# Altium footprint library ldc-hw-library-pcb.PcbLib: 21 footprints (part 1 of 2)
Each footprint in its own frame and in the unit in brackets; x right, y up, seen from the top. Pads: shape width x height; smd on the part's side, far side on the other; paste and mask are expansions set on the pad; w line width, h text height; cw(c..) or ccw(c..) is an arc to the next point about the centre after c.
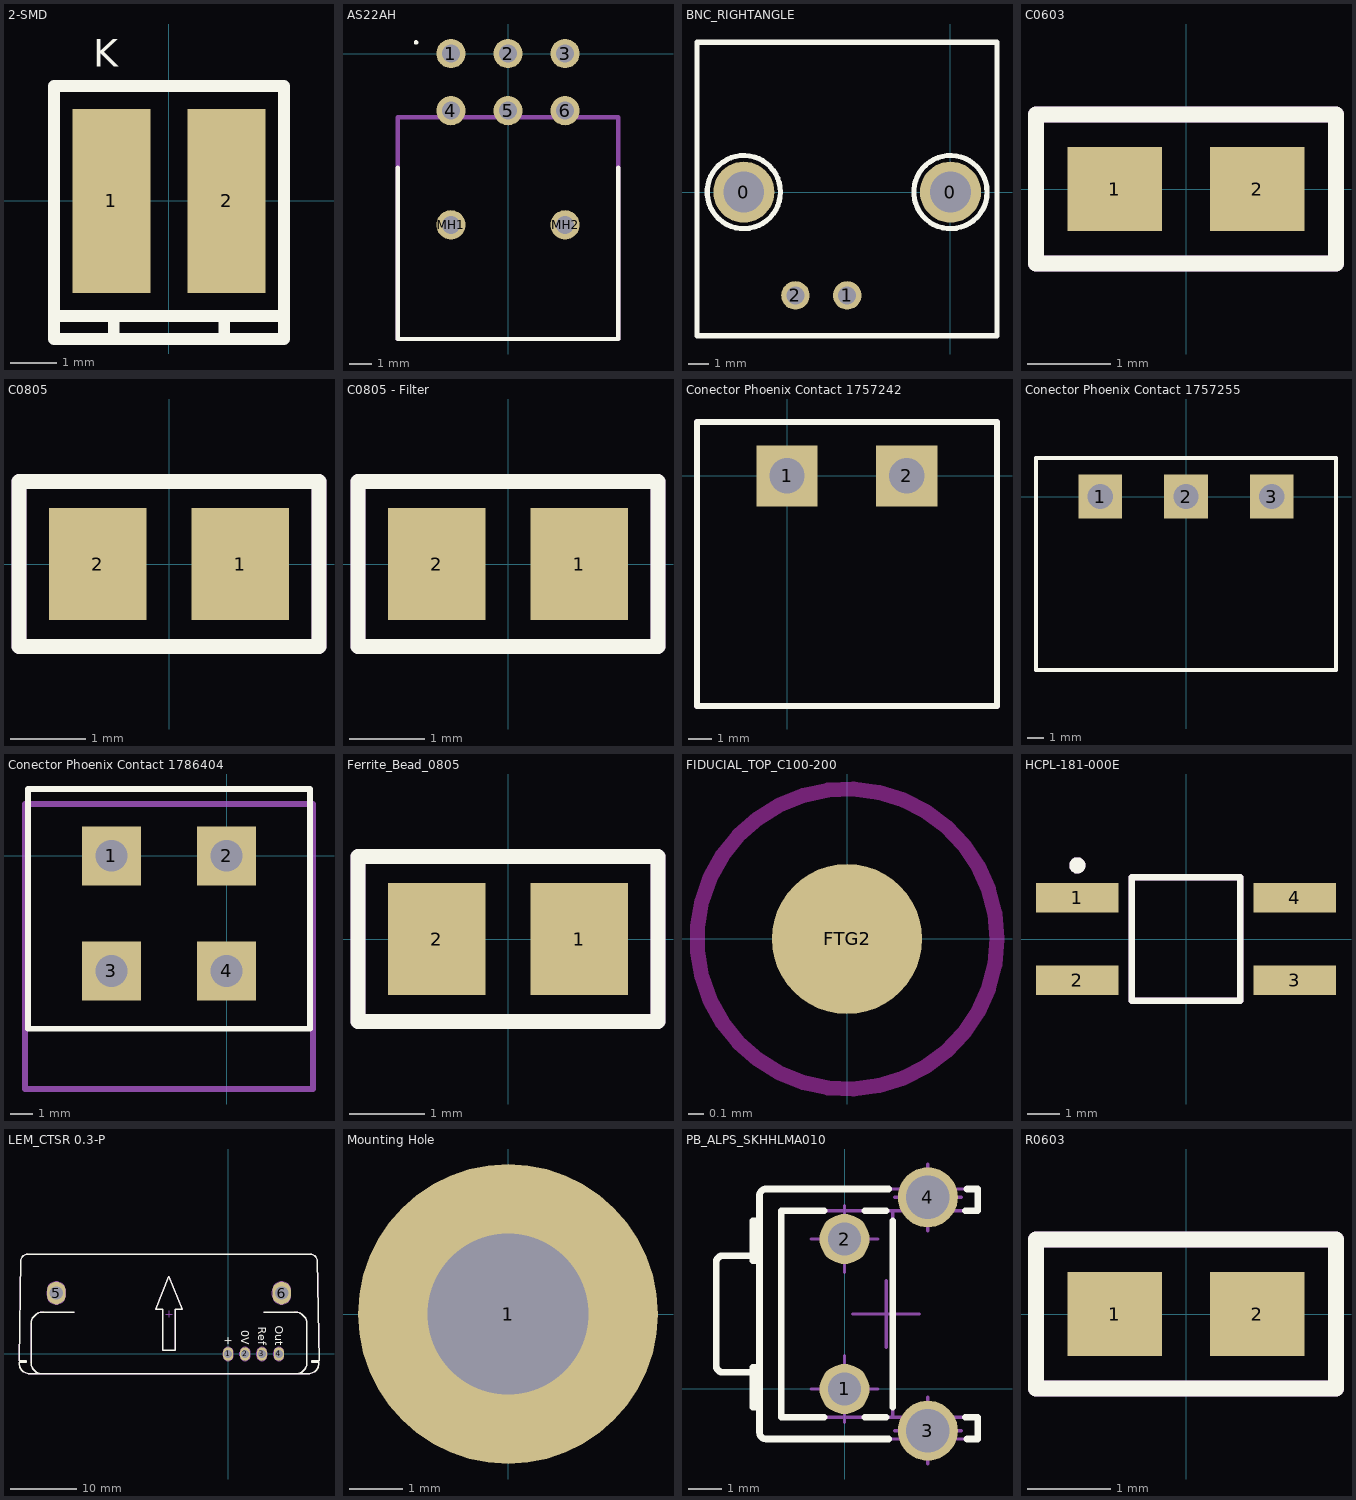
[diagram p0: the footprints below, top view; thin cyan lines are the x and y axes]

## 2-SMD [mm]
pads (2):
  rect 1.7x4 smd: 1(-1.25,0) 2(1.25,0)
Top Overlay:
  lines w0.254: -2.5,-2.5 2.5,-2.5 ; -1.2,-3 -1.2,-2.5 ; 1.2,-3 1.2,-2.5 ; -2.5,-3 2.5,-3 2.5,2.5 -2.5,2.5 -2.5,-3
  text "K" at -1.651,2.921 h0.6
Mechanical 29:
  text "LD?" at 3.416,-0.346 h0.8
3D body "User Library-LED BLUE OSRAM sideled.stp": height 4.03, standoff 0, extent -2,-2.032 2,1.733

## AS22AH [mm]
pads (8):
  round 1.3 hole 0.8: 1(-2.54,0) 2(0,0) 3(2.54,0) 4(-2.54,-2.54) 5(0,-2.54) 6(2.54,-2.54) MH1(-2.54,-7.62) MH2(2.54,-7.62)
Top Overlay:
  lines w0.1: -4.14,0.5 ccw(c-4.09,0.5) -4.04,0.5 ccw(c-4.09,0.5) -4.14,0.5
  lines w0.2: -4.9,-5.08 -4.9,-12.7 4.9,-12.7 4.9,-5.08
Mechanical 13:
  lines w0.2: -4.9,-12.7 4.9,-12.7 4.9,-2.84 -4.9,-2.84 -4.9,-12.7
Mechanical 29:
  text "S?" at 5.448,-8.22 h0.8
3D body "AS22AH.stp": height 10.09, standoff -3.52, extent -4.902,-14.91 4.902,0.304

## BNC_RIGHTANGLE [mm] "BNC Jack Female Socket Right Angle"
height 13.16
pads (4):
  round 3 hole 2.01: 0(-10.16,0) 0(0,0)
  round 1.4 hole 0.89: 1(-5.08,-5.08) 2(-7.62,-5.08)
Top Overlay:
  circle w0.254: c0,0 r1.8
  circle w0.254: c-10.16,0 r1.8
  lines w0.254: -12.46,-7.06 -12.46,7.36 2.286,7.36 2.286,-7.06 -12.46,-7.06
Mechanical 29:
  text "CON?" at 3.67,-1.108 h0.8
3D body "User Library-BNC.stp": height 13.26, standoff -3.6, extent -12.46,-7 2.3,28.5

## C0603 [mil]
pads (2):
  rect 45x40 smd: 1(-33.97,0) 2(33.97,0)
Top Overlay:
  lines w7.5: -71.37,-35.5 71.36,-35.5 71.36,35.5 -71.37,35.5 -71.37,-35.5
Mechanical 29:
  lines w7.5: -71.37,-35.5 71.36,-35.5 71.36,35.5 -71.37,35.5 -71.37,-35.5
  text "C?" at 88.15,-18.03 h31.5
3D body "User Library-0603 SMD Capacitor.step": height 12.4, standoff 0.51, extent -31.49,-15.74 31.5,15.75

## C0805 [mm]
pads (2):
  rect 1.3x1.5 smd: 1(0.95,0) 2(-0.95,0)
Top Overlay:
  lines w0.203: -2,-1.1 -2,1.1 2,1.1 2,-1.1 -2,-1.1
Mechanical 29:
  lines w0.203: -2,-1.1 2,-1.1 2,1.1 -2,1.1 -2,-1.1
  text "C?" at 2.4,-0.6 h0.8
3D body "User Library-0805 SMD Capacitor.step": height 0.79, standoff 0.01, extent -1,-0.625 1,0.625

## C0805 - Filter [mm]
pads (2):
  rect 1.3x1.5 smd: 1(0.95,0) 2(-0.95,0)
Top Overlay:
  lines w0.203: -2,-1.1 -2,1.1 2,1.1 2,-1.1 -2,-1.1
Mechanical 29:
  lines w0.203: -2,-1.1 2,-1.1 2,1.1 -2,1.1 -2,-1.1
  text "C?" at 2.4,-0.6 h0.8

## Conector Phoenix Contact 1757242 [mm]
pads (2):
  rect 2.6x2.6 hole 1.5: 1(0,0) 2(5.075,0)
Top Overlay:
  lines w0.254: -3.81,-9.74 8.89,-9.74 8.89,2.286 -3.81,2.286 -3.81,-9.74
Mechanical 29:
  circle w0.7: c0,0 r0.292
  lines w0.254: -3.81,-9.74 8.89,-9.74 8.89,2.286 -3.81,2.286 -3.81,-9.74
  text "CN?" at 1.524,-5.334 h0.8
3D body "Conector Phoenix Contact 1757242.stp": height 8.64, standoff -3.46, extent -3.54,-10 8.62,2.002

## Conector Phoenix Contact 1757255 [mm]
pads (3):
  rect 2.6x2.6 hole 1.5: 1(-5.08,0) 2(0,0) 3(5.08,0)
Top Overlay:
  lines w0.254: -8.89,-10.287 8.89,-10.287 8.89,2.286 -8.89,2.286 -8.89,-10.287
Mechanical 29:
  circle w0.7: c-5.08,0 r0.292
  lines w0.254: -8.89,-10.287 -8.89,2.286 8.89,2.286 8.89,-10.287 -8.89,-10.287
  text "CN?" at -1.016,-5.08 h0.8
3D body "Conector Phoenix Contact 1757255.stp": height 8.61, standoff -3.49, extent -8.62,-10 8.62,2.002

## Conector Phoenix Contact 1786404 [mm]
pads (4):
  rect 2.6x2.6 hole 1.4: 1(-5.08,0) 2(0,0) 3(-5.08,-5.08) 4(0,-5.08)
Top Overlay:
  lines w0.254: -8.76,-7.63 -8.76,2.95 3.68,2.95 3.68,-7.63 -8.76,-7.63
Mechanical 29:
  circle w0.7: c-5.08,0 r0.292
  lines w0.254: -8.89,-10.287 3.81,-10.287 3.81,2.286 -8.89,2.286 -8.89,-10.287
  text "CN?" at -3.302,-12.7 h0.8
3D body "Conector Phoenix Contact 1786404.stp": height 10.25, standoff -3.45, extent -8.62,-16.19 3.54,2.81

## Ferrite_Bead_0805 [mm]
pads (2):
  rect 1.3x1.5 smd: 1(0.95,0) 2(-0.95,0)
Top Overlay:
  lines w0.203: -2,-1.1 2,-1.1 2,1.1 -2,1.1 -2,-1.1
Mechanical 29:
  lines w0.203: -2,-1.1 2,-1.1 2,1.1 -2,1.1 -2,-1.1
  text "FB?" at 2.54,-0.254 h0.8
3D body "User Library-0805 SMD Inductor.step": height 1.31, standoff 0.01, extent -1,-0.6 1,0.6

## FIDUCIAL_TOP_C100-200 [mm] "Round Fiducial Target, Top Layer, 1.0mm, Top Solder 2.0mm, Keepout =2.0mm"
pads (1):
  round 1 smd paste-0.51 mask+0.5: FTG2(0,0)
Top Layer keep-out:
  circle w0.1: c0,0 r1

## HCPL-181-000E [mm]
pads (4):
  rect 2.55x0.9 smd: 1(-3.35,1.27) 2(-3.35,-1.27) 3(3.35,-1.27) 4(3.35,1.27)
Top Overlay:
  circle w0.25: c-3.35,2.27 r0.125
  lines w0.2: -1.675,-1.9 1.675,-1.9 1.675,1.9 -1.675,1.9 -1.675,-1.9
Mechanical 29:
  circle w0.25: c-3.35,2.27 r0.125
  lines w0.2: -1.675,-1.9 -1.675,1.9 1.675,1.9 1.675,-1.9 -1.675,-1.9
  text "U?" at -0.575,-0.375 h0.8
3D body "User Library-HCPL-181-1.step": height 2.1, standoff 0, extent -3.627,-1.8 3.373,1.8

## LEM_CTSR 0.3-P [mm] "LEM Current Transducer, Body 45x17.9mm, CTSR Series"
height 44.6
pads (6):
  oval 1.524x2.032 hole 1.2: 1(0,0) 2(2.54,0) 3(5.08,0) 4(7.62,0)
  oval 2.8x3.4 hole 2: 5(-25.77,9.15) 6(8.03,9.15)
Top Overlay:
  lines w0.2: -27.937,-2.95 cw(c-27.924,-1.317) -29.555,-1.23 -29.555,4.5 cw(c-27.755,4.5) -27.755,6.3 -23.056,6.3 ; 5.321,6.3 10.019,6.3 cw(c10.019,4.5) 11.819,4.5 11.819,-1.23 cw(c10.189,-1.317) 10.202,-2.95 ; -31.372,-1 -31.091,14.15 cw(c-30.111,13.95) -30.111,14.95 12.376,14.95 cw(c12.363,13.913) 13.373,14.15 13.637,-1 12.528,-1 12.532,-1.25 13.632,-1.25 13.627,-1.406 cw(c12.028,-1.35) 12.028,-2.95 -29.763,-2.95 cw(c-29.763,-1.35) -31.362,-1.406 -31.368,-1.25 -30.267,-1.239 -30.263,-0.989 -31.372,-1 ; -10.872,6.75 -9.777,6.75 -9.777,0.55 -7.959,0.55 -7.959,6.75 -6.863,6.75 -8.872,11.699 -10.872,6.75
  text "+" at -0.528,2.668 h1.2
  text "0V" at 1.965,3.597 h1.2
  text "Ref" at 4.505,4.083 h1.2
  text "Out" at 7.045,4.209 h1.2
Mechanical 8:
  circle w0.1: c-25.77,9.15 r1
  circle w0.1: c8.03,9.15 r1
  circle w0.1: c7.62,0 r0.6
  circle w0.1: c5.08,0 r0.6
  circle w0.1: c2.54,0 r0.6
  circle w0.1: c0,0 r0.6
  lines w0.1: -26.27,8.85 -25.77,8.85 ; -26.27,9.45 -25.77,9.45 ; -26.124,8.796 -25.77,9.15 ; -26.124,9.504 -25.77,9.15 ; -25.77,8.35 -25.77,8.85 ; -25.77,9.95 -25.77,9.45 ; -25.416,8.796 -25.77,9.15 ; -25.416,9.504 -25.77,9.15 ; -25.27,8.85 -25.77,8.85 ; -25.27,9.45 -25.77,9.45 ; -9.368,6 -8.868,6 ; -8.868,5.5 -8.868,6 ; -8.868,6.5 -8.868,6 ; -8.368,6 -8.868,6 ; -0.5,-0.262 0,-0.262 ; -0.5,0.254 0,0.254 ; -0.354,-0.354 0,0 ; -0.354,0.354 0,0 ; 0,-0.762 0,-0.262 ; 0,0.754 0,0.254 ; 0.354,-0.354 0,0 ; 0.354,0.354 0,0 ; 0.5,-0.262 0,-0.262 ; 0.5,0.254 0,0.254 ; 2.04,-0.262 2.54,-0.262 ; 2.04,0.254 2.54,0.254 ; 2.186,-0.354 2.54,0 ; 2.186,0.354 2.54,0 ; 2.54,-0.762 2.54,-0.262 ; 2.54,0.754 2.54,0.254 ; 2.894,-0.354 2.54,0 ; 2.894,0.354 2.54,0 ; 3.04,-0.262 2.54,-0.262 ; 3.04,0.254 2.54,0.254 ; 4.58,-0.262 5.08,-0.262 ; 4.58,0.254 5.08,0.254 ; 4.726,-0.354 5.08,0 ; 4.726,0.354 5.08,0 ; 5.08,-0.762 5.08,-0.262 ; 5.08,0.754 5.08,0.254 ; 5.434,-0.354 5.08,0 ; 5.434,0.354 5.08,0 ; 5.58,-0.262 5.08,-0.262 ; 5.58,0.254 5.08,0.254 ; 7.12,-0.262 7.62,-0.262 ; 7.12,0.254 7.62,0.254 ; 7.266,-0.354 7.62,0 ; 7.266,0.354 7.62,0 ; 7.53,8.85 8.03,8.85 ; 7.53,9.45 8.03,9.45 ; 7.62,-0.762 7.62,-0.262 ; 7.62,0.754 7.62,0.254 ; 7.676,8.796 8.03,9.15 ; 7.676,9.504 8.03,9.15 ; 7.974,-0.354 7.62,0 ; 7.974,0.354 7.62,0 ; 8.03,8.35 8.03,8.85 ; 8.03,9.95 8.03,9.45 ; 8.12,-0.262 7.62,-0.262 ; 8.12,0.254 7.62,0.254 ; 8.384,8.796 8.03,9.15 ; 8.384,9.504 8.03,9.15 ; 8.53,8.85 8.03,8.85 ; 8.53,9.45 8.03,9.45 ; -27.17,8.85 ccw(c-25.77,8.85) -24.37,8.85 -24.37,9.45 ccw(c-25.77,9.45) -27.17,9.45 -27.17,8.85 ; -0.762,-0.262 ccw(c0,-0.262) 0.762,-0.262 0.762,0.254 ccw(c0,0.254) -0.762,0.254 -0.762,-0.262 ; 1.778,-0.262 ccw(c2.54,-0.262) 3.302,-0.262 3.302,0.254 ccw(c2.54,0.254) 1.778,0.254 1.778,-0.262 ; 4.318,-0.262 ccw(c5.08,-0.262) 5.842,-0.262 5.842,0.254 ccw(c5.08,0.254) 4.318,0.254 4.318,-0.262 ; 6.63,8.85 ccw(c8.03,8.85) 9.43,8.85 9.43,9.45 ccw(c8.03,9.45) 6.63,9.45 6.63,8.85 ; 6.858,-0.262 ccw(c7.62,-0.262) 8.382,-0.262 8.382,0.254 ccw(c7.62,0.254) 6.858,0.254 6.858,-0.262
Mechanical 14:
  lines w0.1: -27.937,-2.95 cw(c-27.924,-1.317) -29.555,-1.23 -29.555,4.5 cw(c-27.755,4.5) -27.755,6.3 -23.056,6.3 ; 5.321,6.3 10.019,6.3 cw(c10.019,4.5) 11.819,4.5 11.819,-1.23 cw(c10.189,-1.317) 10.202,-2.95 ; -31.372,-1 -31.091,14.15 cw(c-30.111,13.95) -30.111,14.95 12.376,14.95 cw(c12.363,13.913) 13.373,14.15 13.637,-1 12.528,-1 12.532,-1.25 13.632,-1.25 13.627,-1.406 cw(c12.028,-1.35) 12.028,-2.95 -29.763,-2.95 cw(c-29.763,-1.35) -31.362,-1.406 -31.368,-1.25 -30.267,-1.239 -30.263,-0.989 -31.372,-1 ; -10.872,6.75 -9.777,6.75 -9.777,0.55 -7.959,0.55 -7.959,6.75 -6.863,6.75 -8.872,11.699 -10.872,6.75
  text "+" at -0.528,2.668 h1.2
  text "0V" at 1.965,3.597 h1.2
  text "Ref" at 4.505,4.083 h1.2
  text "Out" at 7.045,4.209 h1.2
Mechanical 29:
  text "HL?" at -9.846,-5.98 h0.8
3D body "CTSR_03-P.stp": height 44.61, standoff -3.47, extent -31.375,-2.96 13.652,14.95

## Mounting Hole [mm]
pads (1):
  round 5.6 hole 3: 1(0,0)

## PB_ALPS_SKHHLMA010 [mm]
pads (4):
  round 1.5 hole 1: 1(0,0) 2(0,4.5)
  round 1.8 hole 1.3: 3(2.5,-1.25) 4(2.5,5.75)
Top Overlay:
  lines w0.2: -2.75,0.5 -3.65,0.5 cw(c-3.65,0.7) -3.85,0.7 -3.85,3.8 cw(c-3.65,3.8) -3.65,4 -2.75,4 ; -2.55,-0.55 -2.75,-0.55 -2.75,0.65 -2.55,0.65 ; -2.55,3.85 -2.75,3.85 -2.75,5.05 -2.55,5.05 ; -0.616,-0.85 -1.9,-0.85 -1.9,5.35 -0.616,5.35 ; 0.616,-0.85 1.25,-0.85 ; 0.616,5.35 1.25,5.35 ; 1.326,-1.5 -2.35,-1.5 cw(c-2.35,-1.3) -2.55,-1.3 -2.55,5.8 cw(c-2.35,5.8) -2.35,6 1.326,6 ; 1.45,-0.55 1.45,5.05 ; 3.631,-0.85 4,-0.85 4,-1.5 3.674,-1.5 ; 3.631,5.35 4,5.35 4,6 3.674,6
Mechanical 8:
  lines w0.1: -1,0 0,0 ; -1,4.5 0,4.5 ; 0,-1 0,0 ; 0,1 0,0 ; 0,3.5 0,4.5 ; 0,5.5 0,4.5 ; 0.25,2.25 1.25,2.25 ; 1,0 0,0 ; 1,4.5 0,4.5 ; 1.25,1.25 1.25,2.25 ; 1.25,3.25 1.25,2.25 ; 1.5,-1.25 2.5,-1.25 ; 1.5,5.75 2.5,5.75 ; 2.25,2.25 1.25,2.25 ; 2.5,-2.25 2.5,-1.25 ; 2.5,-0.25 2.5,-1.25 ; 2.5,4.75 2.5,5.75 ; 2.5,6.75 2.5,5.75 ; 3.5,-1.25 2.5,-1.25 ; 3.5,5.75 2.5,5.75
Mechanical 14:
  lines w0.1: -2.75,0.5 -3.65,0.5 cw(c-3.65,0.7) -3.85,0.7 -3.85,3.8 cw(c-3.65,3.8) -3.65,4 -2.75,4 ; -2.55,-0.55 -2.75,-0.55 -2.75,0.65 -2.55,0.65 ; -2.55,3.85 -2.75,3.85 -2.75,5.05 -2.55,5.05 ; 1.45,-0.85 -1.9,-0.85 -1.9,5.35 1.45,5.35 ; 1.45,-0.85 4,-0.85 4,-1.5 -2.35,-1.5 cw(c-2.35,-1.3) -2.55,-1.3 -2.55,5.8 cw(c-2.35,5.8) -2.35,6 4,6 4,5.35 1.45,5.35 ; 1.45,-0.85 1.45,5.35
Mechanical 29:
  text "PB?" at 4.686,1.686 h0.8
3D body "PB_ALPS_SKHHLMA010.stp": height 7.45, standoff -3.45, extent -3.82,-1.998 4.08,6.498

## R0603 [mil]
pads (2):
  rect 45x40 smd: 1(-33.97,0) 2(33.97,0)
Top Overlay:
  lines w7.5: -71.37,-35.5 0,-35.5 71.36,-35.5 71.36,35.5 0,35.5 -71.37,35.5 -71.37,-35.5
Mechanical 29:
  lines w7.5: -71.37,-35.5 -71.37,35.5 0,35.5 71.36,35.5 71.36,-35.5 0,-35.5 -71.37,-35.5
  text "R?" at 84.13,-17.13 h31.5
3D body "User Library-0603 SMD Resistor.step": height 20.18, standoff 0.5, extent -31.49,-17.71 31.5,17.72